# Altium schematic symbol library STM32F373RCT6.SchLib: 2 symbols
Pins are listed as number, name and electrical type; pins without a type are passive.

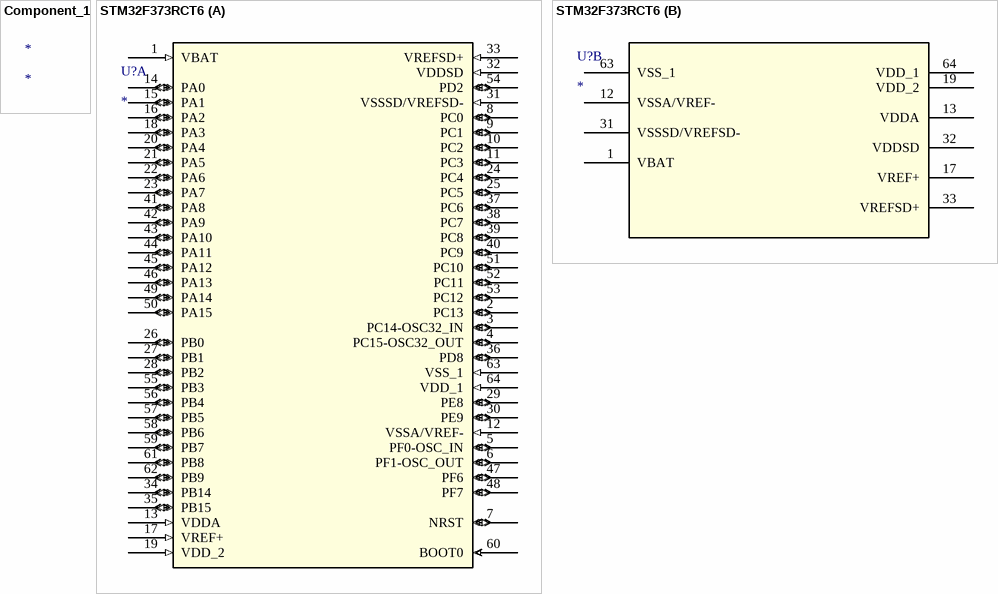
[diagram p0: symbols Component_1 to STM32F373RCT6]

## Component_1
designator *

## STM32F373RCT6
designator U?
No Description Available; Mfr_Name: STMicroelectronics; RefDes: RefDes; Type: Type
footprint LQFP64-10x10mm
part A pins: 1 VBAT (in), 2 PC13 (io), 3 PC14-OSC32_IN (io), 4 PC15-OSC32_OUT (io), 5 PF0-OSC_IN (io), 6 PF1-OSC_OUT (io), 7 NRST (io), 8 PC0 (io), 9 PC1 (io), 10 PC2 (io), 11 PC3 (io), 12 VSSA/VREF- (in), 13 VDDA (in), 14 PA0 (io), 15 PA1 (io), 16 PA2 (io), 17 VREF+ (in), 18 PA3 (io), 19 VDD_2 (in), 20 PA4 (io), 21 PA5 (io), 22 PA6 (io), 23 PA7 (io), 24 PC4 (io), 25 PC5 (io), 26 PB0 (io), 27 PB1 (io), 28 PB2 (io), 29 PE8 (io), 30 PE9 (io), 31 VSSSD/VREFSD- (in), 32 VDDSD (in), 33 VREFSD+ (in), 34 PB14 (io), 35 PB15 (io), 36 PD8 (io), 37 PC6 (io), 38 PC7 (io), 39 PC8 (io), 40 PC9 (io), 41 PA8 (io), 42 PA9 (io), 43 PA10 (io), 44 PA11 (io), 45 PA12 (io), 46 PA13 (io), 47 PF6 (io), 48 PF7 (io), 49 PA14 (io), 50 PA15 (io), 51 PC10 (io), 52 PC11 (io), 53 PC12 (io), 54 PD2 (io), 55 PB3 (io), 56 PB4 (io), 57 PB5 (io), 58 PB6 (io), 59 PB7 (io), 60 BOOT0 (in), 61 PB8 (io), 62 PB9 (io), 63 VSS_1 (in), 64 VDD_1 (in)
part B pins: 1 VBAT (power), 12 VSSA/VREF- (power), 13 VDDA (power), 17 VREF+ (power), 19 VDD_2 (power), 31 VSSSD/VREFSD- (power), 32 VDDSD (power), 33 VREFSD+ (power), 63 VSS_1 (power), 64 VDD_1 (power)